# Altium footprint library adafruit.PCBLIB: 643 footprints (part 33 of 41)
Each footprint in its own frame and in the unit in brackets; x right, y up, seen from the top. Pads: shape width x height; smd on the part's side, far side on the other; paste and mask are expansions set on the pad; w line width, h text height; cw(c..) or ccw(c..) is an arc to the next point about the centre after c.
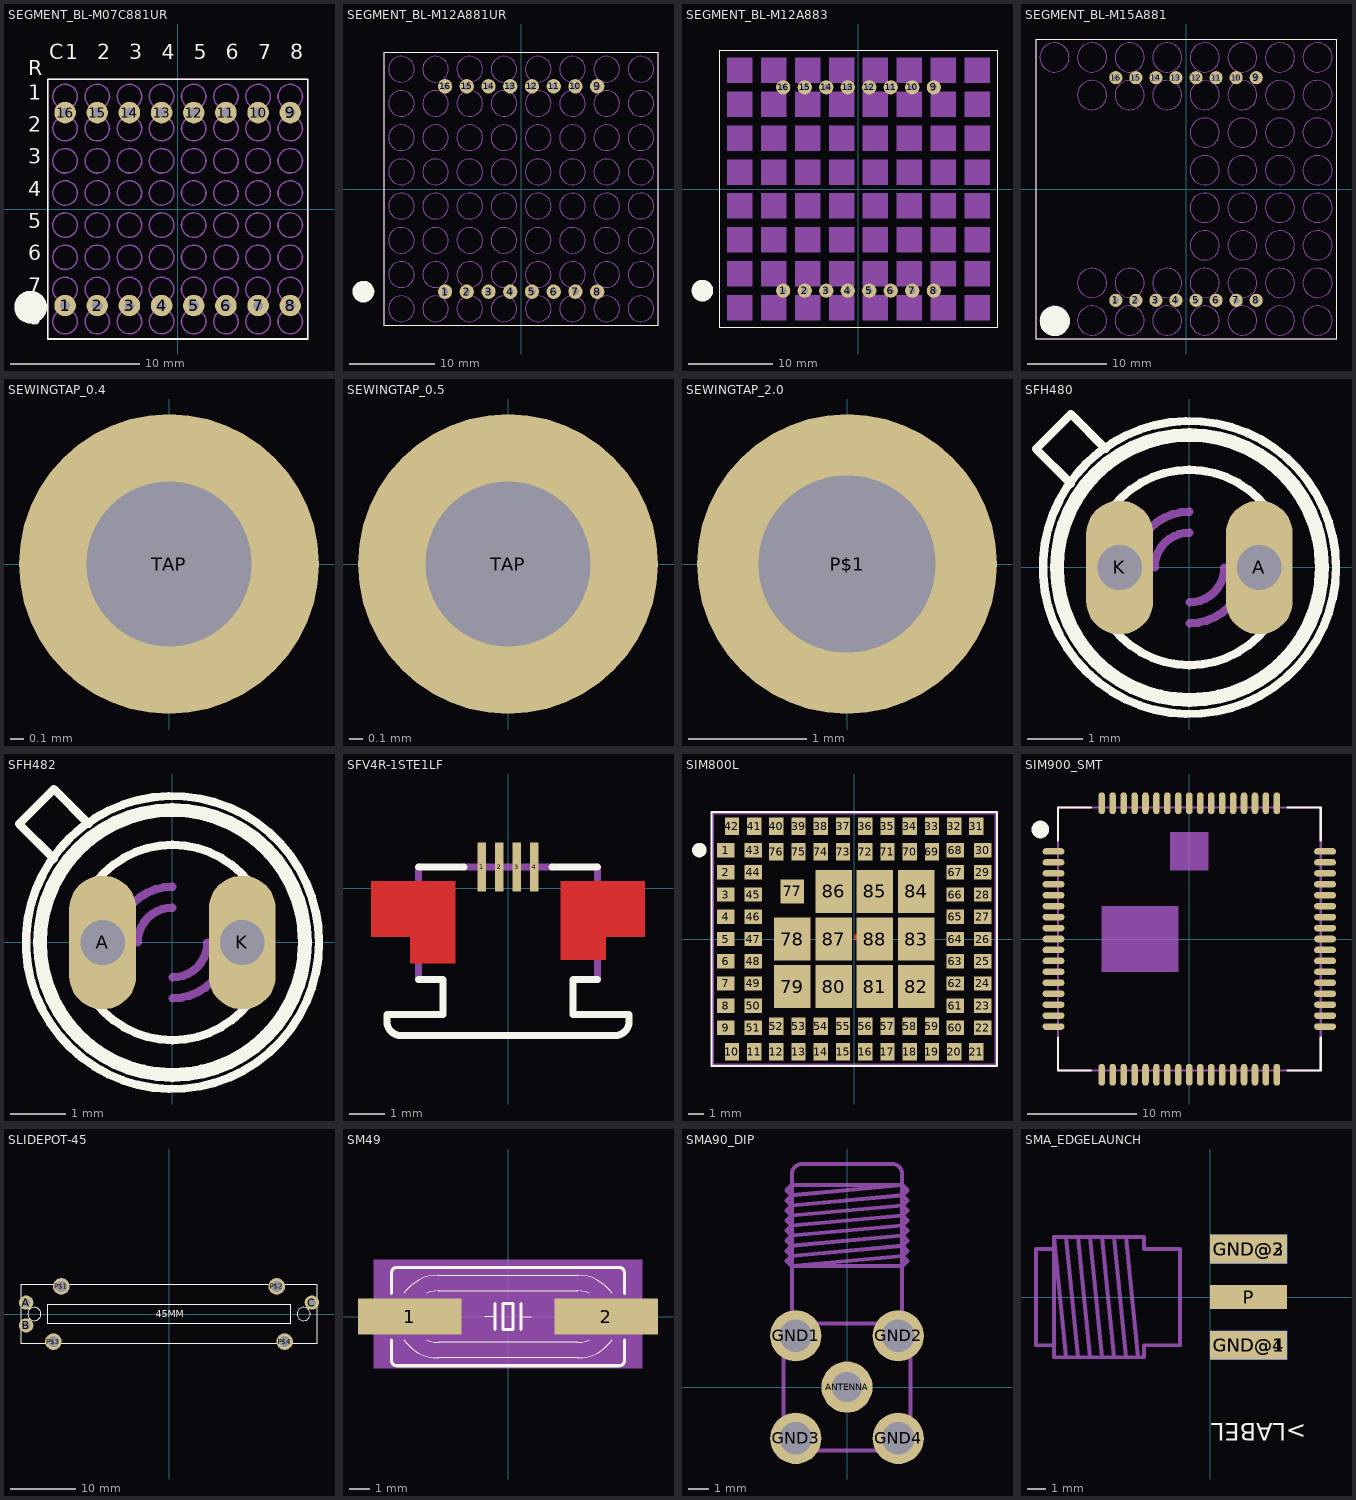
[diagram p32: the footprints below, top view; thin cyan lines are the x and y axes]

## SEGMENT_BL-M07C881UR [mil]
pads (16):
  round 66 hole 31.5: 1(-344.49,-295.28) 2(-246.06,-295.28) 3(-147.64,-295.28) 4(-49.21,-295.28) 5(49.21,-295.28) 6(147.64,-295.28) 7(246.06,-295.28) 8(344.49,-295.28) 9(344.49,295.28) 10(246.06,295.28) 11(147.64,295.28) 12(49.21,295.28) 13(-49.21,295.28) 14(-147.64,295.28) 15(-246.06,295.28) 16(-344.49,295.28)
Top Overlay:
  circle w50: c-450,-300 r25
  lines w5: -397.64,-397.64 397.64,-397.64 397.64,397.64 -397.64,397.64 -397.64,-397.64
  text "C" at -393.7,442.91 h77.5
  text "R" at -457.09,393.7 h77.5
  text "1" at -344.49,442.91 h77.5
  text "2" at -246.06,442.91 h77.5
  text "3" at -147.64,442.91 h77.5
  text "4" at -49.21,442.91 h77.5
  text "5" at 49.21,442.91 h77.5
  text "6" at 147.64,442.91 h77.5
  text "7" at 246.06,442.91 h77.5
  text "8" at 344.49,442.91 h77.5
  text "1" at -457.09,319.88 h77.5
  text "2" at -457.09,221.46 h77.5
  text "3" at -457.09,123.03 h77.5
  text "4" at -457.09,24.61 h77.5
  text "5" at -457.09,-73.82 h77.5
  text "6" at -457.09,-172.24 h77.5
  text "7" at -457.09,-270.67 h77.5
  text "8" at -457.09,-369.09 h77.5
Mechanical 16:
  circle w5: c-344.49,344.49 r37.4
  circle w5: c-246.06,344.49 r37.4
  circle w5: c-147.64,344.49 r37.4
  circle w5: c-49.21,344.49 r37.4
  circle w5: c49.21,344.49 r37.4
  circle w5: c147.64,344.49 r37.4
  circle w5: c246.06,344.49 r37.4
  circle w5: c344.49,344.49 r37.4
  circle w5: c-344.49,246.06 r37.4
  circle w5: c-246.06,246.06 r37.4
  circle w5: c-147.64,246.06 r37.4
  circle w5: c-49.21,246.06 r37.4
  circle w5: c49.21,246.06 r37.4
  circle w5: c147.64,246.06 r37.4
  circle w5: c246.06,246.06 r37.4
  circle w5: c344.49,246.06 r37.4
  circle w5: c-344.49,147.64 r37.4
  circle w5: c-246.06,147.64 r37.4
  circle w5: c-147.64,147.64 r37.4
  circle w5: c-49.21,147.64 r37.4
  circle w5: c49.21,147.64 r37.4
  circle w5: c147.64,147.64 r37.4
  circle w5: c246.06,147.64 r37.4
  circle w5: c344.49,147.64 r37.4
  circle w5: c-344.49,49.21 r37.4
  circle w5: c-246.06,49.21 r37.4
  circle w5: c-147.64,49.21 r37.4
  circle w5: c-49.21,49.21 r37.4
  circle w5: c49.21,49.21 r37.4
  circle w5: c147.64,49.21 r37.4
  circle w5: c246.06,49.21 r37.4
  circle w5: c344.49,49.21 r37.4
  circle w5: c-344.49,-49.21 r37.4
  circle w5: c-246.06,-49.21 r37.4
  circle w5: c-147.64,-49.21 r37.4
  circle w5: c-49.21,-49.21 r37.4
  circle w5: c49.21,-49.21 r37.4
  circle w5: c147.64,-49.21 r37.4
  circle w5: c246.06,-49.21 r37.4
  circle w5: c344.49,-49.21 r37.4
  circle w5: c-344.49,-147.64 r37.4
  circle w5: c-246.06,-147.64 r37.4
  circle w5: c-147.64,-147.64 r37.4
  circle w5: c-49.21,-147.64 r37.4
  circle w5: c49.21,-147.64 r37.4
  circle w5: c147.64,-147.64 r37.4
  circle w5: c246.06,-147.64 r37.4
  circle w5: c344.49,-147.64 r37.4
  circle w5: c-344.49,-246.06 r37.4
  circle w5: c-246.06,-246.06 r37.4
  circle w5: c-147.64,-246.06 r37.4
  circle w5: c-49.21,-246.06 r37.4
  circle w5: c49.21,-246.06 r37.4
  circle w5: c147.64,-246.06 r37.4
  circle w5: c246.06,-246.06 r37.4
  circle w5: c344.49,-246.06 r37.4
  circle w5: c-344.49,-344.49 r37.4
  circle w5: c-246.06,-344.49 r37.4
  circle w5: c-147.64,-344.49 r37.4
  circle w5: c-49.21,-344.49 r37.4
  circle w5: c49.21,-344.49 r37.4
  circle w5: c147.64,-344.49 r37.4
  circle w5: c246.06,-344.49 r37.4
  circle w5: c344.49,-344.49 r37.4
  lines w5: -397.64,-397.64 397.64,-397.64 397.64,397.64 -397.64,397.64 -397.64,-397.64

## SEGMENT_BL-M12A881UR [mil]
pads (16):
  round 66 hole 31.5: 1(-350,-472.44) 2(-250,-472.44) 3(-150,-472.44) 4(-50,-472.44) 5(50,-472.44) 6(150,-472.44) 7(250,-472.44) 8(350,-472.44) 9(350,472.44) 10(250,472.44) 11(150,472.44) 12(50,472.44) 13(-50,472.44) 14(-150,472.44) 15(-250,472.44) 16(-350,472.44)
Top Overlay:
  circle w50: c-725.59,-472.44 r25
  lines w5: -629.92,-629.92 629.92,-629.92 629.92,629.92 -629.92,629.92 -629.92,-629.92
Mechanical 16:
  circle w5: c-551.18,551.18 r59.06
  circle w5: c-393.7,551.18 r59.06
  circle w5: c-236.22,551.18 r59.06
  circle w5: c-78.74,551.18 r59.06
  circle w5: c78.74,551.18 r59.06
  circle w5: c236.22,551.18 r59.06
  circle w5: c393.7,551.18 r59.06
  circle w5: c551.18,551.18 r59.06
  circle w5: c-551.18,393.7 r59.06
  circle w5: c-393.7,393.7 r59.06
  circle w5: c-236.22,393.7 r59.06
  circle w5: c-78.74,393.7 r59.06
  circle w5: c78.74,393.7 r59.06
  circle w5: c236.22,393.7 r59.06
  circle w5: c393.7,393.7 r59.06
  circle w5: c551.18,393.7 r59.06
  circle w5: c-551.18,236.22 r59.06
  circle w5: c-393.7,236.22 r59.06
  circle w5: c-236.22,236.22 r59.06
  circle w5: c-78.74,236.22 r59.06
  circle w5: c78.74,236.22 r59.06
  circle w5: c236.22,236.22 r59.06
  circle w5: c393.7,236.22 r59.06
  circle w5: c551.18,236.22 r59.06
  circle w5: c-551.18,78.74 r59.06
  circle w5: c-393.7,78.74 r59.06
  circle w5: c-236.22,78.74 r59.06
  circle w5: c-78.74,78.74 r59.06
  circle w5: c78.74,78.74 r59.06
  circle w5: c236.22,78.74 r59.06
  circle w5: c393.7,78.74 r59.06
  circle w5: c551.18,78.74 r59.06
  circle w5: c-551.18,-78.74 r59.06
  circle w5: c-393.7,-78.74 r59.06
  circle w5: c-236.22,-78.74 r59.06
  circle w5: c-78.74,-78.74 r59.06
  circle w5: c78.74,-78.74 r59.06
  circle w5: c236.22,-78.74 r59.06
  circle w5: c393.7,-78.74 r59.06
  circle w5: c551.18,-78.74 r59.06
  circle w5: c-551.18,-236.22 r59.06
  circle w5: c-393.7,-236.22 r59.06
  circle w5: c-236.22,-236.22 r59.06
  circle w5: c-78.74,-236.22 r59.06
  circle w5: c78.74,-236.22 r59.06
  circle w5: c236.22,-236.22 r59.06
  circle w5: c393.7,-236.22 r59.06
  circle w5: c551.18,-236.22 r59.06
  circle w5: c-551.18,-393.7 r59.06
  circle w5: c-393.7,-393.7 r59.06
  circle w5: c-236.22,-393.7 r59.06
  circle w5: c-78.74,-393.7 r59.06
  circle w5: c78.74,-393.7 r59.06
  circle w5: c236.22,-393.7 r59.06
  circle w5: c393.7,-393.7 r59.06
  circle w5: c551.18,-393.7 r59.06
  circle w5: c-551.18,-551.18 r59.06
  circle w5: c-393.7,-551.18 r59.06
  circle w5: c-236.22,-551.18 r59.06
  circle w5: c-78.74,-551.18 r59.06
  circle w5: c78.74,-551.18 r59.06
  circle w5: c236.22,-551.18 r59.06
  circle w5: c393.7,-551.18 r59.06
  circle w5: c551.18,-551.18 r59.06
  lines w5: -629.92,-629.92 629.92,-629.92 629.92,629.92 -629.92,629.92 -629.92,-629.92

## SEGMENT_BL-M12A883 [mil]
pads (16):
  round 66 hole 31.5: 1(-350,-472.44) 2(-250,-472.44) 3(-150,-472.44) 4(-50,-472.44) 5(50,-472.44) 6(150,-472.44) 7(250,-472.44) 8(350,-472.44) 9(350,472.44) 10(250,472.44) 11(150,472.44) 12(50,472.44) 13(-50,472.44) 14(-150,472.44) 15(-250,472.44) 16(-350,472.44)
Top Overlay:
  circle w50: c-725.59,-472.44 r25
  lines w5: -643.7,-643.7 643.7,-643.7 643.7,643.7 -643.7,643.7 -643.7,-643.7
Mechanical 16:
  rectangle: -610.24,492.13 -492.13,610.24
  rectangle: -452.76,492.13 -334.65,610.24
  rectangle: -295.28,492.13 -177.17,610.24
  rectangle: -137.8,492.13 -19.69,610.24
  rectangle: 19.69,492.13 137.8,610.24
  rectangle: 177.17,492.13 295.28,610.24
  rectangle: 334.65,492.13 452.76,610.24
  rectangle: 492.13,492.13 610.24,610.24
  rectangle: 492.13,334.65 610.24,452.76
  rectangle: 334.65,334.65 452.76,452.76
  rectangle: 177.17,334.65 295.28,452.76
  rectangle: 19.69,334.65 137.8,452.76
  rectangle: -137.8,334.65 -19.69,452.76
  rectangle: -295.28,334.65 -177.17,452.76
  rectangle: -610.24,334.65 -492.13,452.76
  rectangle: -452.76,334.65 -334.65,452.76
  rectangle: -610.24,177.17 -492.13,295.28
  rectangle: -452.76,177.17 -334.65,295.28
  rectangle: -295.28,177.17 -177.17,295.28
  rectangle: -137.8,177.17 -19.69,295.28
  rectangle: 19.69,177.17 137.8,295.28
  rectangle: 177.17,177.17 295.28,295.28
  rectangle: 334.65,177.17 452.76,295.28
  rectangle: 492.13,177.17 610.24,295.28
  rectangle: 492.13,19.69 610.24,137.8
  rectangle: 492.13,-137.8 610.24,-19.69
  rectangle: 334.65,-137.8 452.76,-19.69
  rectangle: 334.65,19.69 452.76,137.8
  rectangle: 177.17,19.69 295.28,137.8
  rectangle: 19.69,19.69 137.8,137.8
  rectangle: -137.8,19.69 -19.69,137.8
  rectangle: -295.28,19.69 -177.17,137.8
  rectangle: -452.76,19.69 -334.65,137.8
  rectangle: -610.24,19.69 -492.13,137.8
  rectangle: -610.24,-137.8 -492.13,-19.69
  rectangle: -452.76,-137.8 -334.65,-19.69
  rectangle: -295.28,-137.8 -177.17,-19.69
  rectangle: -137.8,-137.8 -19.69,-19.69
  rectangle: 19.69,-137.8 137.8,-19.69
  rectangle: 177.17,-137.8 295.28,-19.69
  rectangle: 492.13,-295.28 610.24,-177.17
  rectangle: 334.65,-295.28 452.76,-177.17
  rectangle: -610.24,-295.28 -492.13,-177.17
  rectangle: -452.76,-295.28 -334.65,-177.17
  rectangle: -295.28,-295.28 -177.17,-177.17
  rectangle: -137.8,-295.28 -19.69,-177.17
  rectangle: 19.69,-295.28 137.8,-177.17
  rectangle: 177.17,-295.28 295.28,-177.17
  rectangle: 492.13,-452.76 610.24,-334.65
  rectangle: 334.65,-452.76 452.76,-334.65
  rectangle: -610.24,-452.76 -492.13,-334.65
  rectangle: -452.76,-452.76 -334.65,-334.65
  rectangle: -295.28,-452.76 -177.17,-334.65
  rectangle: -137.8,-452.76 -19.69,-334.65
  rectangle: 19.69,-452.76 137.8,-334.65
  rectangle: 177.17,-452.76 295.28,-334.65
  rectangle: 492.13,-610.24 610.24,-492.13
  rectangle: 334.65,-610.24 452.76,-492.13
  rectangle: -610.24,-610.24 -492.13,-492.13
  rectangle: -452.76,-610.24 -334.65,-492.13
  rectangle: -295.28,-610.24 -177.17,-492.13
  rectangle: -137.8,-610.24 -19.69,-492.13
  rectangle: 19.69,-610.24 137.8,-492.13
  rectangle: 177.17,-610.24 295.28,-492.13
  lines w5: -643.7,-643.7 643.7,-643.7 643.7,643.7 -643.7,643.7 -643.7,-643.7

## SEGMENT_BL-M15A881 [mil]
pads (16):
  round 66 hole 31.5: 1(-350,-555.12) 2(-250,-555.12) 3(-150,-555.12) 4(-50,-555.12) 5(50,-555.12) 6(150,-555.12) 7(250,-555.12) 8(350,-555.12) 9(350,555.12) 10(250,555.12) 11(150,555.12) 12(50,555.12) 13(-50,555.12) 14(-150,555.12) 15(-250,555.12) 16(-350,555.12)
Top Overlay:
  circle w100: c-654.33,-658.66 r25
  lines w5: -748.03,-748.03 748.03,-748.03 748.03,748.03 -748.03,748.03 -748.03,-748.03
Mechanical 16:
  circle w5: c-281.1,468.5 r72.83
  circle w5: c-93.7,468.5 r72.83
  circle w5: c93.7,468.5 r72.83
  circle w5: c281.1,468.5 r72.83
  circle w5: c468.5,468.5 r72.83
  circle w5: c-468.5,468.5 r72.83
  circle w5: c-281.1,655.91 r72.83
  circle w5: c-93.7,655.91 r72.83
  circle w5: c93.7,655.91 r72.83
  circle w5: c281.1,655.91 r72.83
  circle w5: c468.5,655.91 r72.83
  circle w5: c-468.5,655.91 r72.83
  circle w5: c-655.91,655.91 r72.83
  circle w5: c93.7,281.1 r72.83
  circle w5: c281.1,281.1 r72.83
  circle w5: c468.5,281.1 r72.83
  circle w5: c93.7,93.7 r72.83
  circle w5: c281.1,93.7 r72.83
  circle w5: c468.5,93.7 r72.83
  circle w5: c93.7,-93.7 r72.83
  circle w5: c281.1,-93.7 r72.83
  circle w5: c468.5,-93.7 r72.83
  circle w5: c93.7,-281.1 r72.83
  circle w5: c281.1,-281.1 r72.83
  circle w5: c468.5,-281.1 r72.83
  circle w5: c-281.1,-468.5 r72.83
  circle w5: c-93.7,-468.5 r72.83
  circle w5: c93.7,-468.5 r72.83
  circle w5: c281.1,-468.5 r72.83
  circle w5: c468.5,-468.5 r72.83
  circle w5: c-468.5,-468.5 r72.83
  circle w5: c-281.1,-655.91 r72.83
  circle w5: c-93.7,-655.91 r72.83
  circle w5: c93.7,-655.91 r72.83
  circle w5: c281.1,-655.91 r72.83
  circle w5: c468.5,-655.91 r72.83
  circle w5: c-468.5,-655.91 r72.83
  circle w5: c-655.91,-655.91 r72.83
  circle w5: c655.91,-93.7 r72.83
  circle w5: c655.91,93.7 r72.83
  circle w5: c655.91,281.1 r72.83
  circle w5: c655.91,468.5 r72.83
  circle w5: c655.91,655.91 r72.83
  circle w5: c655.91,-281.1 r72.83
  circle w5: c655.91,-468.5 r72.83
  circle w5: c655.91,-655.91 r72.83
  lines w5: -748.03,-748.03 748.03,-748.03 748.03,748.03 -748.03,748.03 -748.03,-748.03

## SEWINGTAP_0.4 [mil]
pads (1):
  round 86 hole 47.24: TAP(0,0)
Top Layer:
  region: 0,0 10,0 10,10 0,10
Top Solder:
  region: 0,0 10,0 10,10 0,10

## SEWINGTAP_0.5 [mil]
pads (1):
  round 86 hole 47.24: TAP(0,0)
Top Layer:
  region: 0,0 10,0 10,10 0,10
Bottom Layer:
  region: 0,0 10,0 10,10 0,10
Top Solder:
  region: 0,0 10,0 10,10 0,10
Bottom Solder:
  region: 0,0 10,0 10,10 0,10

## SEWINGTAP_2.0 [mil]
pads (1):
  round 100 hole 59.06: P$1(0,0)
Top Layer:
  region: 0,0 10,0 10,10 0,10
Bottom Layer:
  region: 0,0 10,0 10,10 0,10
Top Solder:
  region: 0,0 10,0 10,10 0,10
Bottom Solder:
  region: 0,0 10,0 10,10 0,10

## SFH480 [mil]
pads (2):
  oval 48x96 hole 32: A(50,0) K(-50,0)
Top Overlay:
  circle w6: c0,0 r105
  circle w10: c0,0 r95
  lines w6: -85,60 -110,85 -85,110 -60,85 ; -60.46,-35.27 ccw(c0,0) 0,-70 ccw(c0,0) 60.46,-35.27 ; -60.46,35.27 cw(c0,0) 0,70 cw(c0,0) 60.46,35.27
Mechanical 16:
  lines w6: -59.61,-36.69 cw(c0.01,0.01) -70,0 cw(c-0.01,0.01) -59.06,37.58 ; -40,0 cw(c0,0) 0,40 ; -25,0 cw(c0,0) 0,25 ; 0,-40 ccw(c0,0) 40,0 ; 0,-25 ccw(c0,0) 25,0 ; 59.06,-37.58 ccw(c0.01,-0.01) 70,0 ccw(c-0.01,-0.01) 59.61,36.69

## SFH482 [mil]
pads (2):
  oval 48x96 hole 32: A(-50,0) K(50,0)
Top Overlay:
  circle w6: c0,0 r105
  circle w10: c0,0 r95
  lines w6: -85,60 -110,85 -85,110 -60,85 ; -60.46,-35.27 ccw(c0,0) 0,-70 ccw(c0,0) 60.46,-35.27 ; -60.46,35.27 cw(c0,0) 0,70 cw(c0,0) 60.46,35.27
Mechanical 16:
  lines w6: -59.61,-36.69 cw(c0.01,0.01) -70,0 cw(c-0.01,0.01) -59.06,37.58 ; -40,0 cw(c0,0) 0,40 ; -25,0 cw(c0,0) 0,25 ; 0,-40 ccw(c0,0) 40,0 ; 0,-25 ccw(c0,0) 25,0 ; 59.06,-37.58 ccw(c0.01,-0.01) 70,0 ccw(c-0.01,-0.01) 59.61,36.69

## SFV4R-1STE1LF [mil]
pads (4):
  rect 9.84x55.12 smd: 1(-29.53,23.62) 2(-9.84,23.62) 3(9.84,23.62) 4(29.53,23.62)
Top Layer:
  rectangle: -153.54,-55.12 -59.06,7.87
  rectangle: -110.24,-84.65 -59.06,-51.18
  rectangle: 59.06,-55.12 153.54,7.87
  rectangle: 59.06,-80.71 110.24,-47.24
Top Overlay:
  lines w8: -100.39,-102.36 -72.83,-102.36 -72.83,-141.73 -135.83,-141.73 -135.83,-149.61 ccw(c-120.08,-149.6) -120.08,-165.35 120.08,-165.35 ccw(c120.08,-149.6) 135.83,-149.61 135.83,-141.73 72.83,-141.73 72.83,-102.36 100.39,-102.36 ; -100.39,23.62 -49.21,23.62 ; 49.21,23.62 100.39,23.62
Top Paste:
  rectangle: -168.31,-74.8 -82.68,2.95
  rectangle: -125.98,-108.27 -82.68,-74.8
  rectangle: 82.68,-74.8 168.31,2.95
  rectangle: 82.68,-108.27 125.98,-74.8
Top Solder:
  rectangle: -110.24,-84.65 -59.06,-51.18
  rectangle: -35.43,-3.94 -23.62,51.18
  rectangle: -15.75,-3.94 -3.94,51.18
  rectangle: 3.94,-3.94 15.75,51.18
  rectangle: 23.62,-3.94 35.43,51.18
  rectangle: -153.54,-55.12 -59.06,7.87
  rectangle: 59.06,-55.12 153.54,7.87
  rectangle: 59.06,-82.68 110.24,-55.12
Mechanical 16:
  lines w8: -100.39,-102.36 -100.39,23.62 ; -49.21,23.62 49.21,23.62 ; 100.39,-102.36 100.39,23.62
  lines w19.69: -137.8,-39.37 -106.3,-39.37 -106.3,-5.91 -137.8,-5.91 ; 137.8,-39.37 106.3,-39.37 106.3,-5.91 137.8,-5.91

## SIM800L [mm]
pads (88):
  rect 1.1x0.9 smd: 1(-8.1,5.6) 2(-8.1,4.2) 3(-8.1,2.8) 4(-8.1,1.4) 5(-8.1,0) 6(-8.1,-1.4) 7(-8.1,-2.8) 8(-8.1,-4.2) 9(-8.1,-5.6) 22(8.1,-5.6) 23(8.1,-4.2) 24(8.1,-2.8) 25(8.1,-1.4) 26(8.1,0) 27(8.1,1.4) 28(8.1,2.8) 29(8.1,4.2) 30(8.1,5.6) 43(-6.36,5.6) 44(-6.36,4.2) 45(-6.36,2.8) 46(-6.36,1.4) 47(-6.36,0) 48(-6.36,-1.4) 49(-6.36,-2.8) 50(-6.36,-4.2) 51(-6.36,-5.6) 60(6.36,-5.6) 61(6.36,-4.2) 62(6.36,-2.8) 63(6.36,-1.4) 64(6.36,0) 65(6.36,1.4) 66(6.36,2.8) 67(6.36,4.2) 68(6.36,5.6)
  rect 0.9x1.1 smd: 10(-7.7,-7.1) 11(-6.3,-7.1) 12(-4.9,-7.1) 13(-3.5,-7.1) 14(-2.1,-7.1) 15(-0.7,-7.1) 16(0.7,-7.1) 17(2.1,-7.1) 18(3.5,-7.1) 19(4.9,-7.1) 20(6.3,-7.1) 21(7.7,-7.1) 31(7.7,7.1) 32(6.3,7.1) 33(4.9,7.1) 34(3.5,7.1) 35(2.1,7.1) 36(0.7,7.1) 37(-0.7,7.1) 38(-2.1,7.1) 39(-3.5,7.1) 40(-4.9,7.1) 41(-6.3,7.1) 42(-7.7,7.1) 52(-4.9,-5.5) 53(-3.5,-5.5) 54(-2.1,-5.5) 55(-0.7,-5.5) 56(0.7,-5.5) 57(2.1,-5.5) 58(3.5,-5.5) 59(4.9,-5.5) 69(4.9,5.5) 70(3.5,5.5) 71(2.1,5.5) 72(0.7,5.5) 73(-0.7,5.5) 74(-2.1,5.5) 75(-3.5,5.5) 76(-4.9,5.5)
  rect 1.5x1.5 smd: 77(-3.9,3)
  rect 2.3x2.7 smd: 78(-3.9,0) 79(-3.9,-3) 80(-1.3,-3) 81(1.3,-3) 82(3.9,-3) 83(3.9,0) 84(3.9,3) 85(1.3,3) 86(-1.3,3) 87(-1.3,0) 88(1.3,0)
Top Layer:
  region: 0,0 0.254,0 0.254,0.254 0,0.254
Top Overlay:
  circle w0.61: c-9.75,5.6 r0.15
  lines w0.127: -9,-8 9,-8 9,8 -9,8 -9,-8
Mechanical 16:
  lines w0.127: -8.9,-7.9 -8.9,7.9 8.9,7.9 8.9,-7.9 -8.9,-7.9

## SIM900_SMT [mm]
pads (68):
  rrect100% 2x0.6 smd: P$1(-12.4,8) P$2(-12.4,7) P$3(-12.4,6) P$4(-12.4,5) P$5(-12.4,4) P$6(-12.4,3) P$7(-12.4,2) P$8(-12.4,1) P$9(-12.4,0) P$10(-12.4,-1) P$11(-12.4,-2) P$12(-12.4,-3) P$13(-12.4,-4) P$14(-12.4,-5) P$15(-12.4,-6) P$16(-12.4,-7) P$17(-12.4,-8) P$35(12.4,-8) P$36(12.4,-7) P$37(12.4,-6) P$38(12.4,-5) P$39(12.4,-4) P$40(12.4,-3) P$41(12.4,-2) P$42(12.4,-1) P$43(12.4,0) P$44(12.4,1) P$45(12.4,2) P$46(12.4,3) P$47(12.4,4) P$48(12.4,5) P$49(12.4,6) P$50(12.4,7) P$51(12.4,8)
  rrect100% 0.6x2 smd: P$18(-8,-12.4) P$19(-7,-12.4) P$20(-6,-12.4) P$21(-5,-12.4) P$22(-4,-12.4) P$23(-3,-12.4) P$24(-2,-12.4) P$25(-1,-12.4) P$26(0,-12.4) P$27(1,-12.4) P$28(2,-12.4) P$29(3,-12.4) P$30(4,-12.4) P$31(5,-12.4) P$32(6,-12.4) P$33(7,-12.4) P$34(8,-12.4) P$52(8,12.4) P$53(7,12.4) P$54(6,12.4) P$55(5,12.4) P$56(4,12.4) P$57(3,12.4) P$58(2,12.4) P$59(1,12.4) P$60(0,12.4) P$61(-1,12.4) P$62(-2,12.4) P$63(-3,12.4) P$64(-4,12.4) P$65(-5,12.4) P$66(-6,12.4) P$67(-7,12.4) P$68(-8,12.4)
Top Overlay:
  circle w0.813: c-13.6,10 r0.4
  lines w0.203: -12,-9 -12,-12 -9,-12 ; -12,9 -12,12 -9,12 ; 9,-12 12,-12 12,-9 ; 9,12 12,12 12,9
Mechanical 16:
  lines w0.203: -12,-12 -12,12 12,12 12,-12 -12,-12
Mechanical 27:
  rectangle: -8,-3 -1,3
  rectangle: -1.75,6.25 1.75,9.75

## SLIDEPOT-45 [mil]
pads (7):
  round 86 hole 47.24: A(-856.3,68.9) B(-856.3,-68.9) C(856.3,68.9)
  round 100 hole 66.93: P$1(-645.67,165.35) P$2(645.67,165.35) P$3(-692.91,-165.35) P$4(692.91,-165.35)
Top Overlay:
  circle w5: c-807.09,0 r39.37
  circle w5: c807.09,0 r39.37
  lines w5: -885.83,-177.17 885.83,-177.17 885.83,177.17 -885.83,177.17 -885.83,-177.17 ; -728.35,-59.06 728.35,-59.06 728.35,59.06 -728.35,59.06 -728.35,-59.06
  text "45MM" at -78.74,-19.69 h42.5

## SM49 [mil]
pads (2):
  rect 200x70 smd: 1(-190,0) 2(190,0)
Top Overlay:
  lines w2: -201.15,-45 ccw(c-135,0) -135,-80 135,-80 ccw(c135,0) 201.14,-45 ; -201.15,45 cw(c-135,-0.01) -135,80 135,80 cw(c135,0) 201.15,45 ; -156.8,-45 ccw(c-135,0.01) -135,-50 135,-50 ccw(c135,0.01) 156.8,-45 ; -156.8,45 cw(c-135,-0.01) -135,50 135,50 cw(c135,-0.01) 156.8,45 ; -45,0 -25,0 ; 25,0 45,0
  lines w6: -225,-45 -225,-85 ccw(c-215,-85) -215,-95 215,-95 ccw(c215,-85) 225,-85 225,-45 ; -225,45 -225,85 cw(c-215,85) -215,95 215,95 cw(c215,85) 225,85 225,45 ; -25,-25 -25,0 -25,25 ; 25,-25 25,0 25,25 ; -10,-25 -10,25 10,25 10,-25 -10,-25
Mechanical 10:
  rectangle: -260,-100 260,110
Mechanical 16:
  lines w2: -201.15,-45 cw(c-135,0) -201.15,45 ; -156.8,-45 cw(c-135,0) -156.8,45 ; 156.8,-45 ccw(c135,0) 156.8,45 ; 201.15,-45 ccw(c135,0) 201.15,45
  lines w6: -225,-45 -225,45 ; -225,-15 -255,-15 -255,15 -225,15 ; 225,-45 225,-15 ; 225,45 225,15 ; 225,-15 225,15 ; 225,-15 255,-15 255,15 225,15

## SMA90_DIP [mil]
pads (5):
  round 100 hole 59.06: ANTENNA(0,0)
  round 100 hole 62.99: GND1(-100,100) GND2(100,100) GND3(-100,-100) GND4(100,-100)
Mechanical 16:
  lines w8: -107.28,124.02 -107.28,415.35 ; -107.09,415.94 cw(c-87.99,415.94) -87.99,435.04 ; -87.6,435.04 87.6,435.04 ; 88.19,435.04 cw(c88.19,415.94) 107.28,415.94 ; 107.28,124.02 107.28,415.35 ; -108.27,236.22 -118.11,246.06 -108.27,255.91 ; -108.27,236.22 108.27,255.91 ; -108.27,236.22 108.27,236.22 118.11,246.06 108.27,255.91 ; -108.27,255.91 -118.11,265.75 -108.27,275.59 ; -108.27,255.91 108.27,275.59 ; -108.27,275.59 -118.11,285.43 -108.27,295.28 ; -108.27,275.59 108.27,295.28 ; -108.27,295.28 -118.11,305.12 -108.27,314.96 ; -108.27,295.28 108.27,314.96 ; -108.27,314.96 -118.11,324.8 -108.27,334.65 ; -108.27,314.96 108.27,334.65 ; -108.27,334.65 -118.11,344.49 -108.27,354.33 ; -108.27,334.65 108.27,354.33 ; -108.27,354.33 -118.11,364.17 -108.27,374.02 ; -108.27,354.33 108.27,374.02 ; -108.27,374.02 -118.11,383.86 -108.27,393.7 108.27,393.7 ; -108.27,374.02 108.27,393.7 ; 108.27,255.91 118.11,265.75 108.27,275.59 ; 108.27,275.59 118.11,285.43 108.27,295.28 ; 108.27,295.28 118.11,305.12 108.27,314.96 ; 108.27,314.96 118.11,324.8 108.27,334.65 ; 108.27,334.65 118.11,344.49 108.27,354.33 ; 108.27,354.33 118.11,364.17 108.27,374.02 ; 108.27,374.02 118.11,383.86 108.27,393.7 ; -124.02,-99.21 ccw(c-99.21,-99.21) -99.21,-124.02 99.21,-124.02 ccw(c99.21,-99.21) 124.02,-99.21 124.02,99.21 ccw(c99.21,99.21) 99.21,124.02 -99.21,124.02 ccw(c-99.21,99.21) -124.02,99.21 -124.02,-99.21

## SMA_EDGELAUNCH [mil]
pads (5):
  rect 160x60 smd: GND@1(80,-100) GND@2(80,100)
  rect 160x60 smd far side: GND@3(80,100) GND@4(80,-100)
  rect 160x50 smd: P(80,0)
Top Overlay:
  text ">LABEL" at 200,-250 h62
Mechanical 16:
  rectangle: 0,-12.5 125,12.5
  region: 0,0 10,0 10,10 0,10
  region: 0,0 10,0 10,10 0,10
  lines w8: -150,-125 -175,125 ; -325,-100 -325,-125 -300,-125 ; -325,-100 -362.5,-100 -362.5,100 -325,100 ; -325,-100 -325,100 ; -325,100 -325,125 ; -325,125 -300,125 ; -325,125 -300,-125 ; -300,-125 -275,-125 ; -300,125 -275,125 ; -300,125 -275,-125 ; -275,-125 -250,-125 ; -275,125 -250,125 ; -275,125 -250,-125 ; -250,-125 -225,-125 ; -250,125 -225,125 ; -250,125 -225,-125 ; -225,-125 -200,-125 ; -225,125 -200,125 ; -225,125 -200,-125 ; -200,-125 -175,-125 ; -200,125 -175,125 ; -200,125 -175,-125 ; -175,-125 -137.5,-125 -137.5,-100 -62.5,-100 -62.5,100 -137.5,100 -137.5,125 -175,125